# EAGLE library part LITTLEFUSE_SP1001-05 (library cTechnologies_diodes-transils)
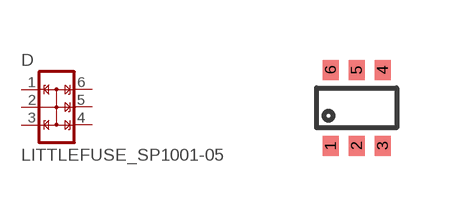
[diagram p1: symbol with the pads of SC70-6; footprint SC70-6]

Designator prefix D

## LITTLEFUSE_SP1001-05  [SC70-6]
1  IO1
2  GND  pas
3  IO3
4  IO4
5  IO5
6  IO6

## Footprint SC70-6 (pad centres in mm)
smd 0.4 x 0.5: 1 -0.65,-0.95; 2 0,-0.95; 3 0.65,-0.95; 4 0.65,0.95; 5 0,0.95; 6 -0.65,0.95